# Altium integrated library ADUM1400.IntLib: 1 symbol
Pins are listed as number, name and electrical type; pins without a type are passive.

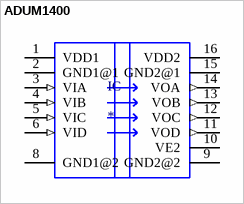
[diagram p0: symbol ADUM1400]

## ADUM1400
designator IC
General Purpose Digital Isolator 2500Vrms 4 Channel 1Mbps 25kV/Âµs CMTI 16-SOIC _0.295, 7.50mm Width_; MP: ADUM1400; MF: Analog Devices; Price: None; Availability: Unavailable; Package: SOIC-16 Analog Devices; SnapEDA_Link: https://www.snapeda.com/parts/ADUM1400/Analog%20Devices%20Inc./view-part/568542/?ref=snap; Value: *
footprint SO16W
pins: 1 VDD1 (power), 2 GND1@1 (power), 3 VIA (in), 4 VIB (in), 5 VIC (in), 6 VID (in), 8 GND1@2 (power), 9 GND2@2 (power), 10 VE2, 11 VOD (out), 12 VOC (out), 13 VOB (out), 14 VOA (out), 15 GND2@1 (power), 16 VDD2 (power)